# Altium integrated library Gennum Digital Filter.IntLib: 3 symbols
Pins are listed as number, name and electrical type; pins without a type are passive.

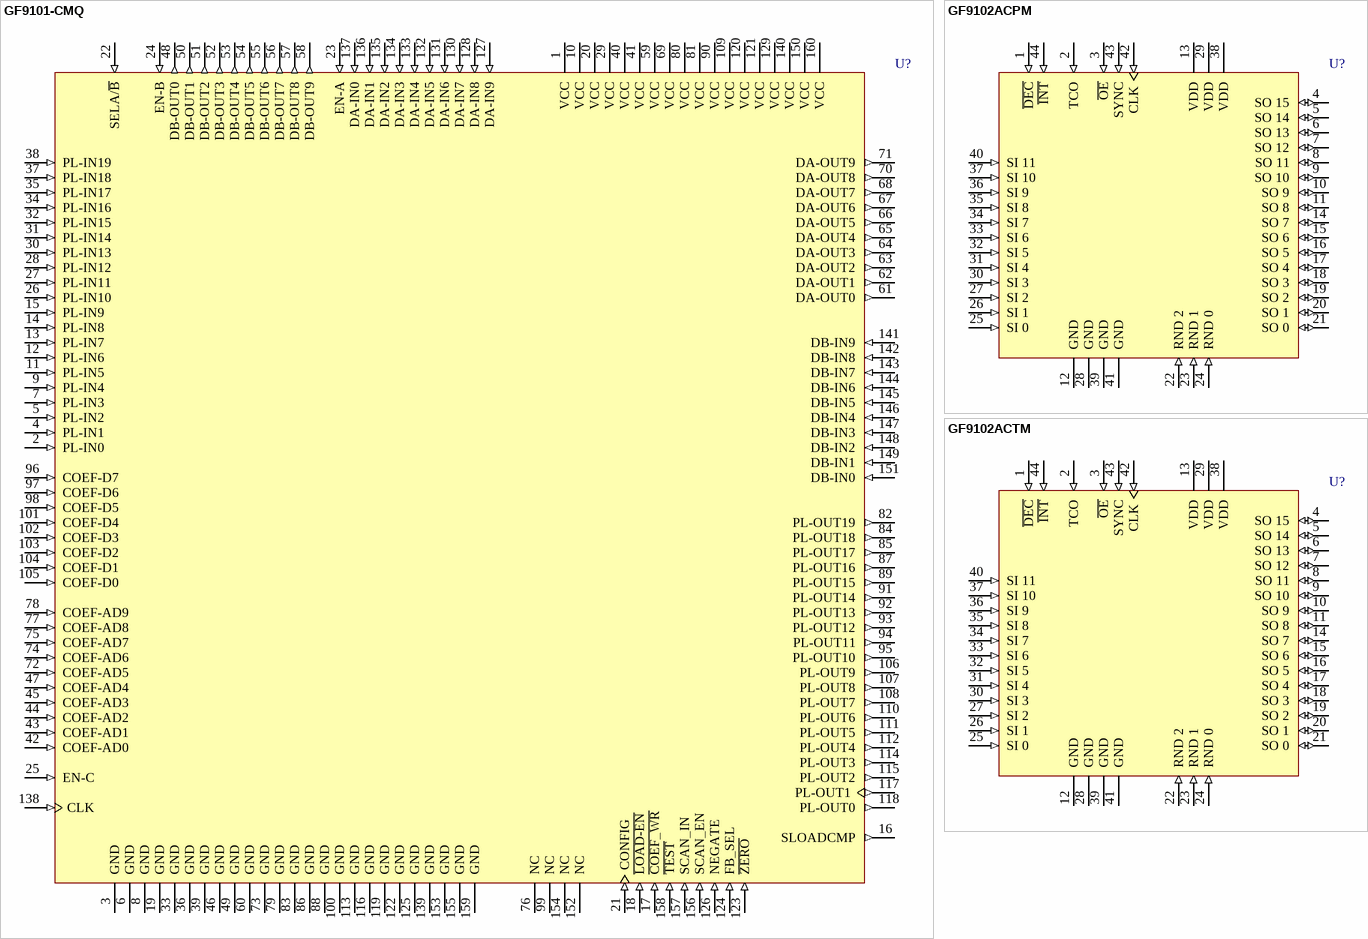
[diagram p0: symbols GF9101-CMQ to GF9102ACTM]

## GF9101-CMQ
designator U?
High Performance Multirate Digital Filter; Note: all unused inputs should be connected to ground;Pins 152,154,99,76 are Not Connected; Published: 8-Jun-2000; LatestRevisionDate: 13-Apr-2006; LatestRevisionNote: IPC-7351 Footprint Added.; DatasheetVersion: Jan-1994; PackageReference: MQFP160; Publisher: Altium Limited; PackageDescription: 160-Pin Quad Flat Pack 0.65 mm Pitch; Code_IPC: QFP65P3120X3120-160; ComponentLink1Description: Manufacturer Link; ComponentLink1URL: http://www.gennum.com/index.html
footprint MQFP160_N (QFP, 160-Leads, Body 28 x 28mm, Pitch 0.65mm, IPC Medium Density)
footprint MQFP160_L (QFP, 160-Leads, Body 28 x 28mm, Pitch 0.65mm, IPC High Density)
footprint MQFP160_M (QFP, 160-Leads, Body 28 x 28mm, Pitch 0.65mm, IPC Low Density)
3D model GF9101-MQFP160 (160-Pin Quad Flat Pack 0.65 mm Pitch)
pins: 1 VCC (power), 2 PL-IN0 (in), 3 GND (power), 4 PL-IN1 (in), 5 PL-IN2 (in), 6 GND (power), 7 PL-IN3 (in), 8 GND (power), 9 PL-IN4 (in), 10 VCC (power), 11 PL-IN5 (in), 12 PL-IN6 (in), 13 PL-IN7 (in), 14 PL-IN8 (in), 15 PL-IN9 (in), 16 SLOADCMP (out), 17 ~{COEF_WR} (in), 18 ~{LOAD-EN} (in), 19 GND (power), 20 VCC (power), 21 CONFIG (in), 22 SELA/~{B} (in), 23 EN-A (in), 24 EN-B (in), 25 EN-C (in), 26 PL-IN10 (in), 27 PL-IN11 (in), 28 PL-IN12 (in), 29 VCC (power), 30 PL-IN13 (in), 31 PL-IN14 (in), 32 PL-IN15 (in), 33 GND (power), 34 PL-IN16 (in), 35 PL-IN17 (in), 36 GND (power), 37 PL-IN18 (in), 38 PL-IN19 (in), 39 GND (power), 40 VCC (power), 41 VCC (power), 42 COEF-AD0 (in), 43 COEF-AD1 (in), 44 COEF-AD2 (in), 45 COEF-AD3 (in), 46 GND (power), 47 COEF-AD4 (in), 48 DB-OUT0 (out), 49 GND (power), 50 DB-OUT1 (out), 51 DB-OUT2 (out), 52 DB-OUT3 (out), 53 DB-OUT4 (out), 54 DB-OUT5 (out), 55 DB-OUT6 (out), 56 DB-OUT7 (out), 57 DB-OUT8 (out), 58 DB-OUT9 (out), 59 VCC (power), 60 GND (power), 61 DA-OUT0 (out), 62 DA-OUT1 (out), 63 DA-OUT2 (out), 64 DA-OUT3 (out), 65 DA-OUT4 (out), 66 DA-OUT5 (out), 67 DA-OUT6 (out), 68 DA-OUT7 (out), 69 VCC (power), 70 DA-OUT8 (out), 71 DA-OUT9 (out), 72 COEF-AD5 (in), 73 GND (power), 74 COEF-AD6 (in), 75 COEF-AD7 (in), 76 NC, 77 COEF-AD8 (in), 78 COEF-AD9 (in), 79 GND (power), 80 VCC (power), 81 VCC (power), 82 PL-OUT19 (out), 83 GND (power), 84 PL-OUT18 (out), 85 PL-OUT17 (out), 86 GND (power), 87 PL-OUT16 (out), 88 GND (power), 89 PL-OUT15 (out), 90 VCC (power), 91 PL-OUT14 (out), 92 PL-OUT13 (out), 93 PL-OUT12 (out), 94 PL-OUT11 (out), 95 PL-OUT10 (out), 96 COEF-D7 (in), 97 COEF-D6 (in), 98 COEF-D5 (in), 99 NC, 100 GND (power), 101 COEF-D4 (in), 102 COEF-D3 (in), 103 COEF-D2 (in), 104 COEF-D1 (in), 105 COEF-D0 (in), 106 PL-OUT9 (out), 107 PL-OUT8 (out), 108 PL-OUT7 (out), 109 VCC (power), 110 PL-OUT6 (out), 111 PL-OUT5 (out), 112 PL-OUT4 (out), 113 GND (power), 114 PL-OUT3 (out), 115 PL-OUT2 (out), 116 GND (power), 117 PL-OUT1 (out), 118 PL-OUT0 (out), 119 GND (power), 120 VCC (power), 121 VCC (power), 122 GND (power), 123 ~{ZERO} (in), 124 FB_SEL (in), 125 GND (power), 126 NEGATE (in), 127 DA-IN9 (in), 128 DA-IN8 (in), 129 VCC (power), 130 DA-IN7 (in), 131 DA-IN6 (in), 132 DA-IN5 (in), 133 DA-IN4 (in), 134 DA-IN3 (in), 135 DA-IN2 (in), 136 DA-IN1 (in), 137 DA-IN0 (in), 138 CLK (in), 139 GND (power), 140 VCC (power), 141 DB-IN9 (in), 142 DB-IN8 (in), 143 DB-IN7 (in), 144 DB-IN6 (in), 145 DB-IN5 (in), 146 DB-IN4 (in), 147 DB-IN3 (in), 148 DB-IN2 (in), 149 DB-IN1 (in), 150 VCC (power), 151 DB-IN0 (in), 152 NC, 153 GND (power), 154 NC, 155 GND (power), 156 SCAN_EN (in), 157 SCAN_IN (in), 158 ~{TEST} (in), 159 GND (power), 160 VCC (power)

## GF9102ACPM
designator U?
Decimating/Interpolating Digital Filter; Published: 8-Jun-2000; LatestRevisionDate: 13-Apr-2006; LatestRevisionNote: IPC-7351 Footprint Added.; DatasheetVersion: Feb-1996; PackageReference: PLCC44; Publisher: Altium Limited; PackageDescription: 44-Pin Leaded Chip Carrier 1.27 mm Pitch; Code_IPC: PLCC-44; ComponentLink1Description: Manufacturer Link; ComponentLink1URL: http://www.gennum.com/index.html
footprint PLCC44_N (Leaded Chip Carrier, 44-Leads, Body 16.6x16.6mm, Pitch 1.27mm, IPC Medium Density)
footprint PLCC44_L (Leaded Chip Carrier, 44-Leads, Body 16.6x16.6mm, Pitch 1.27mm, IPC High Density)
footprint PLCC44_M (Leaded Chip Carrier, 44-Leads, Body 16.6x16.6mm, Pitch 1.27mm, IPC Low Density)
3D model GF9102-PLCC44 (44-Pin Leaded Chip Carrier 1.27 mm Pitch)
pins: 1 ~{DEC} (in), 2 TCO (in), 3 ~{OE} (in), 4 SO 15 (io), 5 SO 14 (io), 6 SO 13 (io), 7 SO 12 (io), 8 SO 11 (io), 9 SO 10 (io), 10 SO 9 (io), 11 SO 8 (io), 12 GND (power), 13 VDD (power), 14 SO 7 (io), 15 SO 6 (io), 16 SO 5 (io), 17 SO 4 (io), 18 SO 3 (io), 19 SO 2 (io), 20 SO 1 (io), 21 SO 0 (io), 22 RND 2 (in), 23 RND 1 (in), 24 RND 0 (in), 25 SI 0 (in), 26 SI 1 (in), 27 SI 2 (in), 28 GND (power), 29 VDD (power), 30 SI 3 (in), 31 SI 4 (in), 32 SI 5 (in), 33 SI 6 (in), 34 SI 7 (in), 35 SI 8 (in), 36 SI 9 (in), 37 SI 10 (in), 38 VDD (power), 39 GND (power), 40 SI 11 (in), 41 GND (power), 42 CLK (in), 43 SYNC (in), 44 ~{INT} (in)

## GF9102ACTM
designator U?
Decimating/Interpolating Digital Filter; Published: 8-Jun-2000; LatestRevisionDate: 13-Apr-2006; LatestRevisionNote: IPC-7351 Footprint Added.; DatasheetVersion: Feb-1996; PackageReference: PLCC44T; Publisher: Altium Limited; PackageDescription: 44-Pin Leaded Chip Carrier 1.27 mm Pitch; Code_IPC: PLCC-44; ComponentLink1Description: Manufacturer Link; ComponentLink1URL: http://www.gennum.com/index.html
footprint PLCC44T_N (Leaded Chip Carrier, 44-Leads, Body 16.6x16.6mm, Pitch 1.27mm, IPC Medium Density)
footprint PLCC44T_L (Leaded Chip Carrier, 44-Leads, Body 16.6x16.6mm, Pitch 1.27mm, IPC High Density)
footprint PLCC44T_M (Leaded Chip Carrier, 44-Leads, Body 16.6x16.6mm, Pitch 1.27mm, IPC Low Density)
3D model GF9102-PLCC44 (44-Pin Leaded Chip Carrier 1.27 mm Pitch)
pins: 1 ~{DEC} (in), 2 TCO (in), 3 ~{OE} (in), 4 SO 15 (io), 5 SO 14 (io), 6 SO 13 (io), 7 SO 12 (io), 8 SO 11 (io), 9 SO 10 (io), 10 SO 9 (io), 11 SO 8 (io), 12 GND (power), 13 VDD (power), 14 SO 7 (io), 15 SO 6 (io), 16 SO 5 (io), 17 SO 4 (io), 18 SO 3 (io), 19 SO 2 (io), 20 SO 1 (io), 21 SO 0 (io), 22 RND 2 (in), 23 RND 1 (in), 24 RND 0 (in), 25 SI 0 (in), 26 SI 1 (in), 27 SI 2 (in), 28 GND (power), 29 VDD (power), 30 SI 3 (in), 31 SI 4 (in), 32 SI 5 (in), 33 SI 6 (in), 34 SI 7 (in), 35 SI 8 (in), 36 SI 9 (in), 37 SI 10 (in), 38 VDD (power), 39 GND (power), 40 SI 11 (in), 41 GND (power), 42 CLK (in), 43 SYNC (in), 44 ~{INT} (in)